# Altium footprint library 0PTF0078P.PcbLib: 1 footprints
Each footprint in its own frame and in the unit in brackets; x right, y up, seen from the top. Pads: shape width x height; smd on the part's side, far side on the other; paste and mask are expansions set on the pad; w line width, h text height; cw(c..) or ccw(c..) is an arc to the next point about the centre after c.
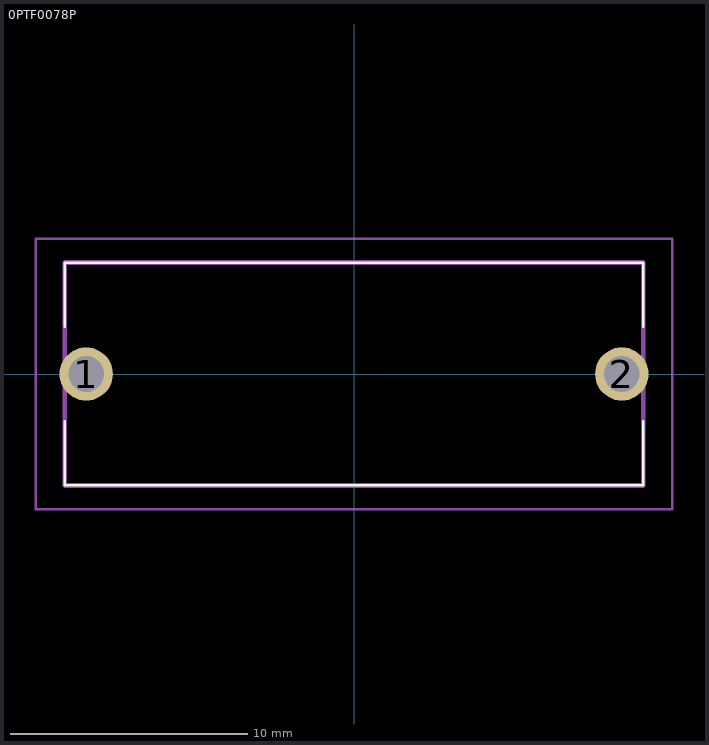
[diagram p0: the footprint, top view; thin cyan lines are the x and y axes]

## 0PTF0078P [mm]
pads (2):
  round 2.25 hole 1.5: 1(-11.3,0) 2(11.3,0)
Top Overlay:
  lines w0.1: -12.2,-2 -12.2,-4.7 12.2,-4.7 12.2,-2 ; -12.2,2 -12.2,4.7 12.2,4.7 12.2,2
Mechanical 15:
  lines w0.2: -12.2,-4.7 12.2,-4.7 12.2,4.7 -12.2,4.7 -12.2,-4.7
Mechanical 20:
  lines w0.1: -13.425,-5.7 13.425,-5.7 13.425,5.7 -13.425,5.7 -13.425,-5.7